# Altium schematic symbol library STMBluePill.SchLib: 1 symbol
Pins are listed as number, name and electrical type; pins without a type are passive.

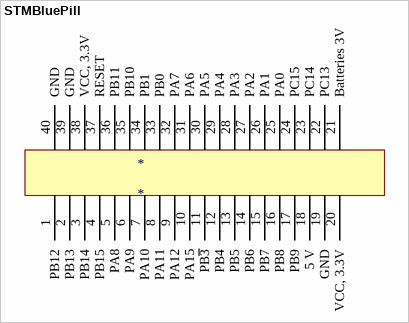
[diagram p0: symbol STMBluePill]

## STMBluePill
designator *
footprint STM32 Blue Pill
pins: 1 PB12, 2 PB13, 3 PB14, 4 PB15, 5 PA8, 6 PA9, 7 PA10, 8 PA11, 9 PA12, 10 PA15, 11 PB~{3}, 12 PB4, 13 PB5, 14 PB6, 15 PB7, 16 PB8, 17 PB9, 18 5 V, 19 GND, 20 VCC, 3.3V, 21 Batteries 3V, 22 PC13, 23 PC14, 24 PC15, 25 PA0, 26 PA1, 27 PA2, 28 PA3, 29 PA4, 30 PA5, 31 PA6, 32 PA7, 33 PB0, 34 PB1, 35 PB10, 36 PB11, 37 RESET, 38 VCC, 3.3V, 39 GND, 40 GND